# EAGLE library part MAG45 (library lib_stankus)
Mag45 Farnell #1284348 (6605759-1)
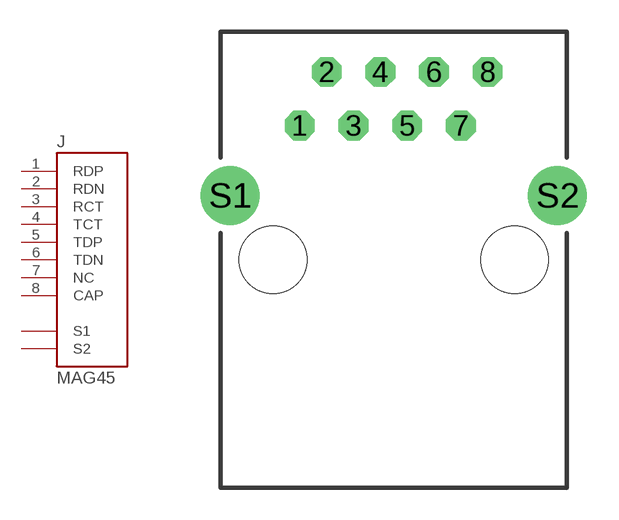
[diagram p49: symbol with the pads of RJ45; footprint RJ45]

Designator prefix J

## MAG45  [RJ45]
1  RDP  pas
2  RDN  pas
3  RCT  pas
4  TCT  pas
5  TDP  pas
6  TDN  pas
7  NC  nc
8  CAP  pas
S1  S1  pas
S2  S2  pas

## Footprint RJ45 (pad centres in mm)
RJ45
drill 0.9 octagon: 1 -4.445,6.35; 2 -3.175,8.89; 3 -1.905,6.35; 4 -0.635,8.89; 5 0.635,6.35; 6 1.905,8.89; 7 3.175,6.35; 8 4.445,8.89
drill 1.6 pad 2.794 round: S1 -7.747,3.048; S2 7.747,3.048
hole 3.2 at -5.715,0
hole 3.2 at 5.715,0